# Altium footprint library Pin Grid Array Package (PGA).PcbLib: 60 footprints (part 1 of 6)
Each footprint in its own frame and in the unit in brackets; x right, y up, seen from the top. Pads: shape width x height; smd on the part's side, far side on the other; paste and mask are expansions set on the pad; w line width, h text height; cw(c..) or ccw(c..) is an arc to the next point about the centre after c.
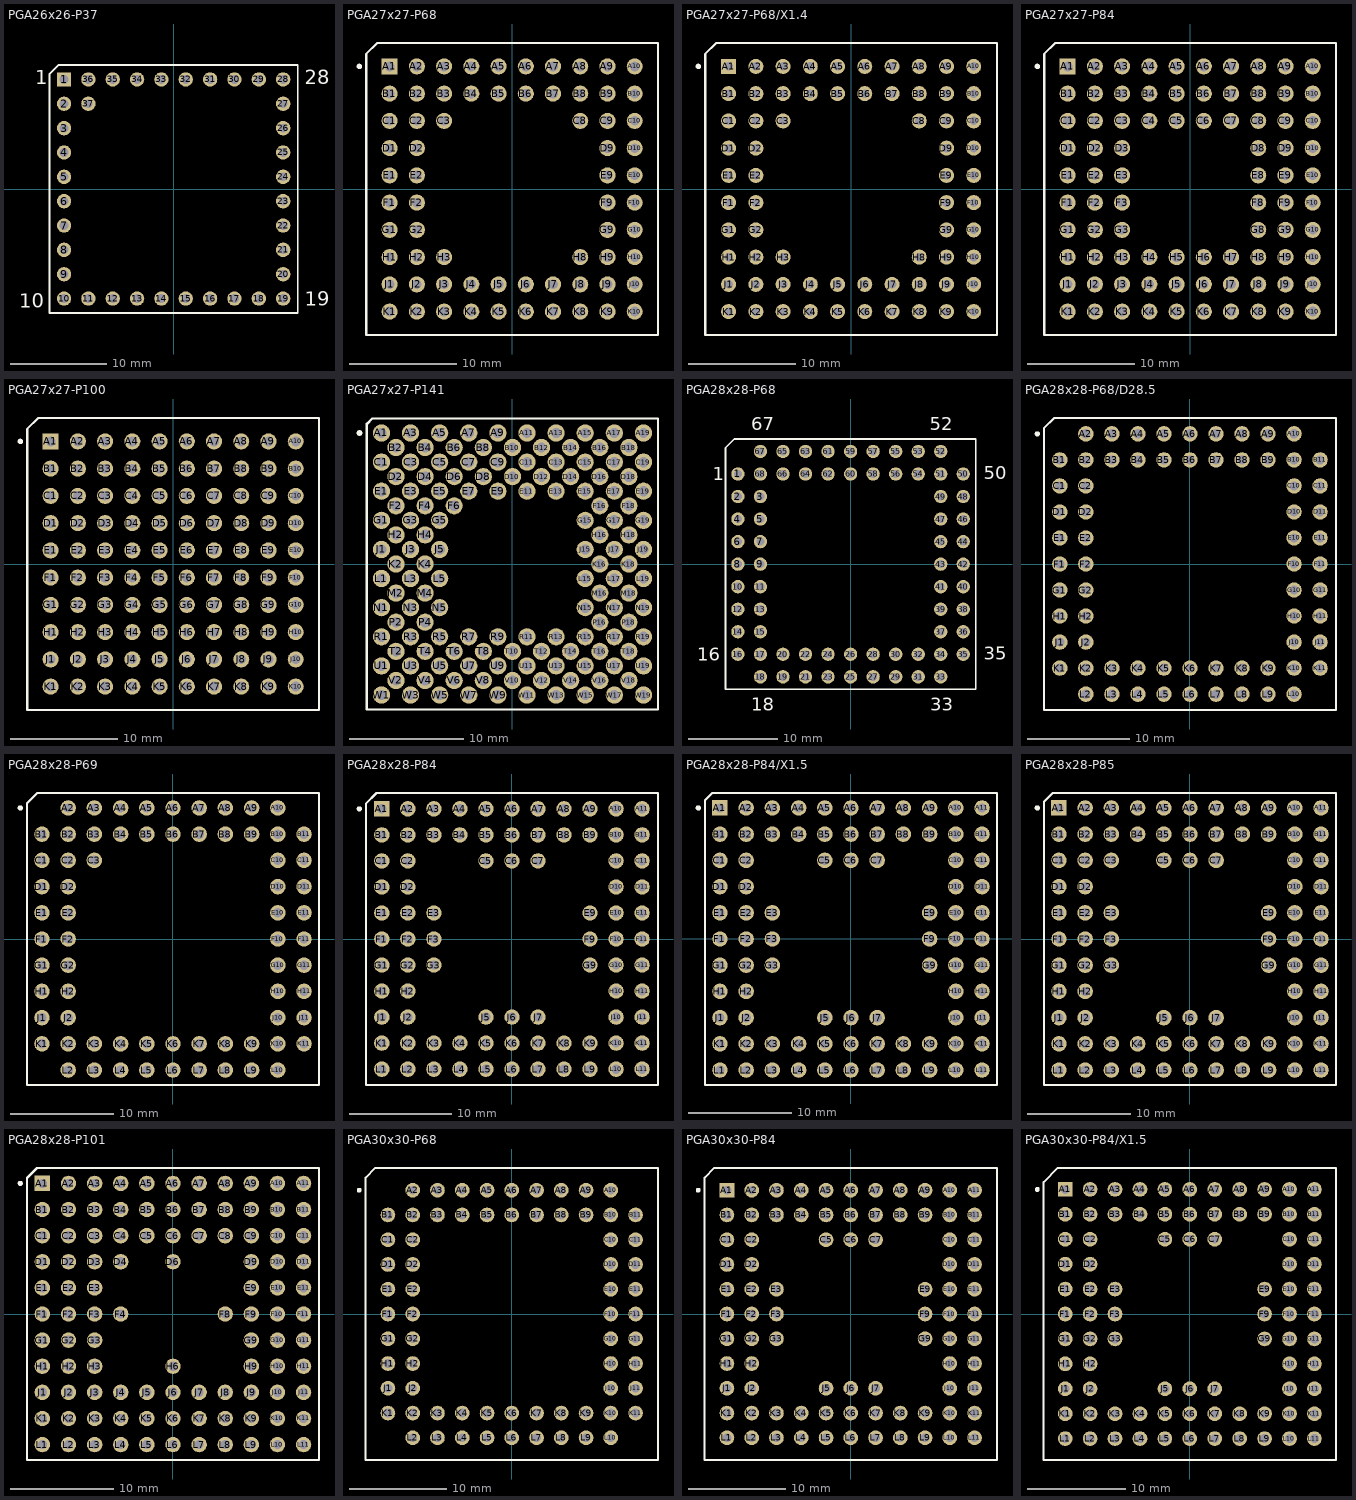
[diagram p0: the footprints below, top view; thin cyan lines are the x and y axes]

## PGA26x26-P37 [mm] "PGA; 37 Leads; Body 25.5 x 25.5 mm; Plain Grid"
height 5.1
pads (37):
  rect 1.5x1.5 hole 0.9: 1(-11.43,11.43)
  round 1.5 hole 0.9: 2(-11.43,8.89) 3(-11.43,6.35) 4(-11.43,3.81) 5(-11.43,1.27) 6(-11.43,-1.27) 7(-11.43,-3.81) 8(-11.43,-6.35) 9(-11.43,-8.89) 10(-11.43,-11.43) 11(-8.89,-11.43) 12(-6.35,-11.43) 13(-3.81,-11.43) 14(-1.27,-11.43) 15(1.27,-11.43) 16(3.81,-11.43) 17(6.35,-11.43) 18(8.89,-11.43) 19(11.43,-11.43) 20(11.43,-8.89) 21(11.43,-6.35) 22(11.43,-3.81) 23(11.43,-1.27) 24(11.43,1.27) 25(11.43,3.81) 26(11.43,6.35) 27(11.43,8.89) 28(11.43,11.43) 29(8.89,11.43) 30(6.35,11.43) 31(3.81,11.43) 32(1.27,11.43) 33(-1.27,11.43) 34(-3.81,11.43) 35(-6.35,11.43) 36(-8.89,11.43) 37(-8.89,8.89)
Top Overlay:
  lines w0.2: -12.95,-12.95 -12.95,11.976 -11.976,12.95 12.95,12.95 12.95,-12.95 -12.95,-12.95
  text "1" at -14.43,10.93 h1.5
  text "28" at 13.67,10.93 h1.5
  text "19" at 13.67,-12.17 h1.5
  text "10" at -16.13,-12.37 h1.5

## PGA27x27-P68 [mm] "PGA; 68 Leads; Body 27 x 27 mm; Plain Grid"
height 5.47
pads (68):
  rect 1.5x1.5 hole 0.9: A1(-11.43,11.43)
  round 1.5 hole 0.9: A2(-8.89,11.43) A3(-6.35,11.43) A4(-3.81,11.43) A5(-1.27,11.43) A6(1.27,11.43) A7(3.81,11.43) A8(6.35,11.43) A9(8.89,11.43) A10(11.43,11.43) B1(-11.43,8.89) B2(-8.89,8.89) B3(-6.35,8.89) B4(-3.81,8.89) B5(-1.27,8.89) B6(1.27,8.89) B7(3.81,8.89) B8(6.35,8.89) B9(8.89,8.89) B10(11.43,8.89) C1(-11.43,6.35) C2(-8.89,6.35) C3(-6.35,6.35) C8(6.35,6.35) C9(8.89,6.35) C10(11.43,6.35) D1(-11.43,3.81) D2(-8.89,3.81) D9(8.89,3.81) D10(11.43,3.81) E1(-11.43,1.27) E2(-8.89,1.27) E9(8.89,1.27) E10(11.43,1.27) F1(-11.43,-1.27) F2(-8.89,-1.27) F9(8.89,-1.27) F10(11.43,-1.27) G1(-11.43,-3.81) G2(-8.89,-3.81) G9(8.89,-3.81) G10(11.43,-3.81) H1(-11.43,-6.35) H2(-8.89,-6.35) H3(-6.35,-6.35) H8(6.35,-6.35) H9(8.89,-6.35) H10(11.43,-6.35) J1(-11.43,-8.89) J2(-8.89,-8.89) J3(-6.35,-8.89) J4(-3.81,-8.89) J5(-1.27,-8.89) J6(1.27,-8.89) J7(3.81,-8.89) J8(6.35,-8.89) J9(8.89,-8.89) J10(11.43,-8.89) K1(-11.43,-11.43) K2(-8.89,-11.43) K3(-6.35,-11.43) K4(-3.81,-11.43) K5(-1.27,-11.43) K6(1.27,-11.43) K7(3.81,-11.43) K8(6.35,-11.43) K9(8.89,-11.43) K10(11.43,-11.43)
Top Overlay:
  circle w0.25: c-14.25,11.43 r0.125
  lines w0.2: -13.6,-13.6 13.6,-13.6 13.6,13.6 -12.6,13.6 -13.6,12.6 -13.6,-13.6

## PGA27x27-P68/X1.4 [mm] "PGA; 68 Leads; Body 27 x 27 mm; Plain Grid"
pads (68):
  rect 1.4x1.4 hole 0.8: A1(-11.43,11.43)
  round 1.4 hole 0.8: A2(-8.89,11.43) A3(-6.35,11.43) A4(-3.81,11.43) A5(-1.27,11.43) A6(1.27,11.43) A7(3.81,11.43) A8(6.35,11.43) A9(8.89,11.43) A10(11.43,11.43) B1(-11.43,8.89) B2(-8.89,8.89) B3(-6.35,8.89) B4(-3.81,8.89) B5(-1.27,8.89) B6(1.27,8.89) B7(3.81,8.89) B8(6.35,8.89) B9(8.89,8.89) B10(11.43,8.89) C1(-11.43,6.35) C2(-8.89,6.35) C3(-6.35,6.35) C8(6.35,6.35) C9(8.89,6.35) C10(11.43,6.35) D1(-11.43,3.81) D2(-8.89,3.81) D9(8.89,3.81) D10(11.43,3.81) E1(-11.43,1.27) E2(-8.89,1.27) E9(8.89,1.27) E10(11.43,1.27) F1(-11.43,-1.27) F2(-8.89,-1.27) F9(8.89,-1.27) F10(11.43,-1.27) G1(-11.43,-3.81) G2(-8.89,-3.81) G9(8.89,-3.81) G10(11.43,-3.81) H1(-11.43,-6.35) H2(-8.89,-6.35) H3(-6.35,-6.35) H8(6.35,-6.35) H9(8.89,-6.35) H10(11.43,-6.35) J1(-11.43,-8.89) J2(-8.89,-8.89) J3(-6.35,-8.89) J4(-3.81,-8.89) J5(-1.27,-8.89) J6(1.27,-8.89) J7(3.81,-8.89) J8(6.35,-8.89) J9(8.89,-8.89) J10(11.43,-8.89) K1(-11.43,-11.43) K2(-8.89,-11.43) K3(-6.35,-11.43) K4(-3.81,-11.43) K5(-1.27,-11.43) K6(1.27,-11.43) K7(3.81,-11.43) K8(6.35,-11.43) K9(8.89,-11.43) K10(11.43,-11.43)
Top Overlay:
  circle w0.25: c-14.25,11.43 r0.125
  lines w0.2: -13.6,-13.6 13.6,-13.6 13.6,13.6 -12.6,13.6 -13.6,12.6 -13.6,-13.6

## PGA27x27-P84 [mm] "PGA; 84 Leads; Body 27 x 27 mm; Plain Grid"
height 5.47
pads (84):
  rect 1.5x1.5 hole 0.9: A1(-11.43,11.43)
  round 1.5 hole 0.9: A2(-8.89,11.43) A3(-6.35,11.43) A4(-3.81,11.43) A5(-1.27,11.43) A6(1.27,11.43) A7(3.81,11.43) A8(6.35,11.43) A9(8.89,11.43) A10(11.43,11.43) B1(-11.43,8.89) B2(-8.89,8.89) B3(-6.35,8.89) B4(-3.81,8.89) B5(-1.27,8.89) B6(1.27,8.89) B7(3.81,8.89) B8(6.35,8.89) B9(8.89,8.89) B10(11.43,8.89) C1(-11.43,6.35) C2(-8.89,6.35) C3(-6.35,6.35) C4(-3.81,6.35) C5(-1.27,6.35) C6(1.27,6.35) C7(3.81,6.35) C8(6.35,6.35) C9(8.89,6.35) C10(11.43,6.35) D1(-11.43,3.81) D2(-8.89,3.81) D3(-6.35,3.81) D8(6.35,3.81) D9(8.89,3.81) D10(11.43,3.81) E1(-11.43,1.27) E2(-8.89,1.27) E3(-6.35,1.27) E8(6.35,1.27) E9(8.89,1.27) E10(11.43,1.27) F1(-11.43,-1.27) F2(-8.89,-1.27) F3(-6.35,-1.27) F8(6.35,-1.27) F9(8.89,-1.27) F10(11.43,-1.27) G1(-11.43,-3.81) G2(-8.89,-3.81) G3(-6.35,-3.81) G8(6.35,-3.81) G9(8.89,-3.81) G10(11.43,-3.81) H1(-11.43,-6.35) H2(-8.89,-6.35) H3(-6.35,-6.35) H4(-3.81,-6.35) H5(-1.27,-6.35) H6(1.27,-6.35) H7(3.81,-6.35) H8(6.35,-6.35) H9(8.89,-6.35) H10(11.43,-6.35) J1(-11.43,-8.89) J2(-8.89,-8.89) J3(-6.35,-8.89) J4(-3.81,-8.89) J5(-1.27,-8.89) J6(1.27,-8.89) J7(3.81,-8.89) J8(6.35,-8.89) J9(8.89,-8.89) J10(11.43,-8.89) K1(-11.43,-11.43) K2(-8.89,-11.43) K3(-6.35,-11.43) K4(-3.81,-11.43) K5(-1.27,-11.43) K6(1.27,-11.43) K7(3.81,-11.43) K8(6.35,-11.43) K9(8.89,-11.43) K10(11.43,-11.43)
Top Overlay:
  circle w0.25: c-14.25,11.43 r0.125
  lines w0.2: -13.6,-13.6 -13.6,12.6 -12.6,13.6 13.6,13.6 13.6,-13.6 -13.6,-13.6

## PGA27x27-P100 [mm] "PGA; 100 Leads; Body 27 x 27 mm; Plain Grid"
height 4.01
pads (100):
  rect 1.5x1.5 hole 0.9: A1(-11.43,11.43)
  round 1.5 hole 0.9: A2(-8.89,11.43) A3(-6.35,11.43) A4(-3.81,11.43) A5(-1.27,11.43) A6(1.27,11.43) A7(3.81,11.43) A8(6.35,11.43) A9(8.89,11.43) A10(11.43,11.43) B1(-11.43,8.89) B2(-8.89,8.89) B3(-6.35,8.89) B4(-3.81,8.89) B5(-1.27,8.89) B6(1.27,8.89) B7(3.81,8.89) B8(6.35,8.89) B9(8.89,8.89) B10(11.43,8.89) C1(-11.43,6.35) C2(-8.89,6.35) C3(-6.35,6.35) C4(-3.81,6.35) C5(-1.27,6.35) C6(1.27,6.35) C7(3.81,6.35) C8(6.35,6.35) C9(8.89,6.35) C10(11.43,6.35) D1(-11.43,3.81) D2(-8.89,3.81) D3(-6.35,3.81) D4(-3.81,3.81) D5(-1.27,3.81) D6(1.27,3.81) D7(3.81,3.81) D8(6.35,3.81) D9(8.89,3.81) D10(11.43,3.81) E1(-11.43,1.27) E2(-8.89,1.27) E3(-6.35,1.27) E4(-3.81,1.27) E5(-1.27,1.27) E6(1.27,1.27) E7(3.81,1.27) E8(6.35,1.27) E9(8.89,1.27) E10(11.43,1.27) F1(-11.43,-1.27) F2(-8.89,-1.27) F3(-6.35,-1.27) F4(-3.81,-1.27) F5(-1.27,-1.27) F6(1.27,-1.27) F7(3.81,-1.27) F8(6.35,-1.27) F9(8.89,-1.27) F10(11.43,-1.27) G1(-11.43,-3.81) G2(-8.89,-3.81) G3(-6.35,-3.81) G4(-3.81,-3.81) G5(-1.27,-3.81) G6(1.27,-3.81) G7(3.81,-3.81) G8(6.35,-3.81) G9(8.89,-3.81) G10(11.43,-3.81) H1(-11.43,-6.35) H2(-8.89,-6.35) H3(-6.35,-6.35) H4(-3.81,-6.35) H5(-1.27,-6.35) H6(1.27,-6.35) H7(3.81,-6.35) H8(6.35,-6.35) H9(8.89,-6.35) H10(11.43,-6.35) J1(-11.43,-8.89) J2(-8.89,-8.89) J3(-6.35,-8.89) J4(-3.81,-8.89) J5(-1.27,-8.89) J6(1.27,-8.89) J7(3.81,-8.89) J8(6.35,-8.89) J9(8.89,-8.89) J10(11.43,-8.89) K1(-11.43,-11.43) K2(-8.89,-11.43) K3(-6.35,-11.43) K4(-3.81,-11.43) K5(-1.27,-11.43) K6(1.27,-11.43) K7(3.81,-11.43) K8(6.35,-11.43) K9(8.89,-11.43) K10(11.43,-11.43)
Top Overlay:
  circle w0.25: c-14.25,11.43 r0.125
  lines w0.2: -13.6,-13.6 13.6,-13.6 13.6,13.6 -12.6,13.6 -13.6,12.6 -13.6,-13.6

## PGA27x27-P141 [mm] "PGA; 141 Leads; Body 27 x 27 mm; Staggered Grid"
height 4.54
pads (141):
  round 1.5 hole 0.9: A1(-11.43,11.43) A3(-8.89,11.43) A5(-6.35,11.43) A7(-3.81,11.43) A9(-1.27,11.43) A11(1.27,11.43) A13(3.81,11.43) A15(6.35,11.43) A17(8.89,11.43) A19(11.43,11.43) B2(-10.16,10.16) B4(-7.62,10.16) B6(-5.08,10.16) B8(-2.54,10.16) B10(0,10.16) B12(2.54,10.16) B14(5.08,10.16) B16(7.62,10.16) B18(10.16,10.16) C1(-11.43,8.89) C3(-8.89,8.89) C5(-6.35,8.89) C7(-3.81,8.89) C9(-1.27,8.89) C11(1.27,8.89) C13(3.81,8.89) C15(6.35,8.89) C17(8.89,8.89) C19(11.43,8.89) D2(-10.16,7.62) D4(-7.62,7.62) D6(-5.08,7.62) D8(-2.54,7.62) D10(0,7.62) D12(2.54,7.62) D14(5.08,7.62) D16(7.62,7.62) D18(10.16,7.62) E1(-11.43,6.35) E3(-8.89,6.35) E5(-6.35,6.35) E7(-3.81,6.35) E9(-1.27,6.35) E11(1.27,6.35) E13(3.81,6.35) E15(6.35,6.35) E17(8.89,6.35) E19(11.43,6.35) F2(-10.16,5.08) F4(-7.62,5.08) F6(-5.08,5.08) F16(7.62,5.08) F18(10.16,5.08) G1(-11.43,3.81) G3(-8.89,3.81) G5(-6.35,3.81) G15(6.35,3.81) G17(8.89,3.81) G19(11.43,3.81) H2(-10.16,2.54) H4(-7.62,2.54) H16(7.62,2.54) H18(10.16,2.54) J1(-11.43,1.27) J3(-8.89,1.27) J5(-6.35,1.27) J15(6.35,1.27) J17(8.89,1.27) J19(11.43,1.27) K2(-10.16,0) K4(-7.62,0) K16(7.62,0) K18(10.16,0) L1(-11.43,-1.27) L3(-8.89,-1.27) L5(-6.35,-1.27) L15(6.35,-1.27) L17(8.89,-1.27) L19(11.43,-1.27) M2(-10.16,-2.54) M4(-7.62,-2.54) M16(7.62,-2.54) M18(10.16,-2.54) N1(-11.43,-3.81) N3(-8.89,-3.81) N5(-6.35,-3.81) N15(6.35,-3.81) N17(8.89,-3.81) N19(11.43,-3.81) P2(-10.16,-5.08) P4(-7.62,-5.08) P16(7.62,-5.08) P18(10.16,-5.08) R1(-11.43,-6.35) R3(-8.89,-6.35) R5(-6.35,-6.35) R7(-3.81,-6.35) R9(-1.27,-6.35) R11(1.27,-6.35) R13(3.81,-6.35) R15(6.35,-6.35) R17(8.89,-6.35) R19(11.43,-6.35) T2(-10.16,-7.62) T4(-7.62,-7.62) T6(-5.08,-7.62) T8(-2.54,-7.62) T10(0,-7.62) T12(2.54,-7.62) T14(5.08,-7.62) T16(7.62,-7.62) T18(10.16,-7.62) U1(-11.43,-8.89) U3(-8.89,-8.89) U5(-6.35,-8.89) U7(-3.81,-8.89) U9(-1.27,-8.89) U11(1.27,-8.89) U13(3.81,-8.89) U15(6.35,-8.89) U17(8.89,-8.89) U19(11.43,-8.89) V2(-10.16,-10.16) V4(-7.62,-10.16) V6(-5.08,-10.16) V8(-2.54,-10.16) V10(0,-10.16) V12(2.54,-10.16) V14(5.08,-10.16) V16(7.62,-10.16) V18(10.16,-10.16) W1(-11.43,-11.43) W3(-8.89,-11.43) W5(-6.35,-11.43) W7(-3.81,-11.43) W9(-1.27,-11.43) W11(1.27,-11.43) W13(3.81,-11.43) W15(6.35,-11.43) W17(8.89,-11.43) W19(11.43,-11.43)
Top Overlay:
  circle w0.25: c-13.35,11.43 r0.125
  lines w0.2: -12.7,-12.7 12.7,-12.7 12.7,12.7 -12.226,12.7 -12.7,12.226 -12.7,-12.7

## PGA28x28-P68 [mm] "PGA; 68 Leads; Body 28 x 28 mm; Plain Grid"
height 4.45
pads (68):
  round 1.5 hole 0.9: 1(-12.7,10.16) 2(-12.7,7.62) 3(-10.16,7.62) 4(-12.7,5.08) 5(-10.16,5.08) 6(-12.7,2.54) 7(-10.16,2.54) 8(-12.7,0) 9(-10.16,0) 10(-12.7,-2.54) 11(-10.16,-2.54) 12(-12.7,-5.08) 13(-10.16,-5.08) 14(-12.7,-7.62) 15(-10.16,-7.62) 16(-12.7,-10.16) 17(-10.16,-10.16) 18(-10.16,-12.7) 19(-7.62,-12.7) 20(-7.62,-10.16) 21(-5.08,-12.7) 22(-5.08,-10.16) 23(-2.54,-12.7) 24(-2.54,-10.16) 25(0,-12.7) 26(0,-10.16) 27(2.54,-12.7) 28(2.54,-10.16) 29(5.08,-12.7) 30(5.08,-10.16) 31(7.62,-12.7) 32(7.62,-10.16) 33(10.16,-12.7) 34(10.16,-10.16) 35(12.7,-10.16) 36(12.7,-7.62) 37(10.16,-7.62) 38(12.7,-5.08) 39(10.16,-5.08) 40(12.7,-2.54) 41(10.16,-2.54) 42(12.7,0) 43(10.16,0) 44(12.7,2.54) 45(10.16,2.54) 46(12.7,5.08) 47(10.16,5.08) 48(12.7,7.62) 49(10.16,7.62) 50(12.7,10.16) 51(10.16,10.16) 52(10.16,12.7) 53(7.62,12.7) 54(7.62,10.16) 55(5.08,12.7) 56(5.08,10.16) 57(2.54,12.7) 58(2.54,10.16) 59(0,12.7) 60(0,10.16) 61(-2.54,12.7) 62(-2.54,10.16) 63(-5.08,12.7) 64(-5.08,10.16) 65(-7.62,12.7) 66(-7.62,10.16) 67(-10.16,12.7) 68(-10.16,10.16)
Top Overlay:
  lines w0.2: -14.1,-14.1 -14.1,13.1 -13.1,14.1 14.1,14.1 14.1,-14.1 -14.1,-14.1
  text "67" at -11.18,15.08 h1.5
  text "52" at 8.9,15.08 h1.5
  text "50" at 15,9.55 h1.5
  text "35" at 15,-10.77 h1.5
  text "33" at 8.96,-16.55 h1.5
  text "16" at -17.31,-10.87 h1.5
  text "1" at -15.51,9.45 h1.5
  text "18" at -11.22,-16.55 h1.5

## PGA28x28-P68/D28.5 [mm] "68-Pin Ceramic Pin-Grid Array (PGA)"
height 4.96
pads (68):
  round 1.5 hole 0.9: A2(-10.16,12.7) A3(-7.62,12.7) A4(-5.08,12.7) A5(-2.54,12.7) A6(0,12.7) A7(2.54,12.7) A8(5.08,12.7) A9(7.62,12.7) A10(10.16,12.7) B1(-12.7,10.16) B2(-10.16,10.16) B3(-7.62,10.16) B4(-5.08,10.16) B5(-2.54,10.16) B6(0,10.16) B7(2.54,10.16) B8(5.08,10.16) B9(7.62,10.16) B10(10.16,10.16) B11(12.7,10.16) C1(-12.7,7.62) C2(-10.16,7.62) C10(10.16,7.62) C11(12.7,7.62) D1(-12.7,5.08) D2(-10.16,5.08) D10(10.16,5.08) D11(12.7,5.08) E1(-12.7,2.54) E2(-10.16,2.54) E10(10.16,2.54) E11(12.7,2.54) F1(-12.7,0) F2(-10.16,0) F10(10.16,0) F11(12.7,0) G1(-12.7,-2.54) G2(-10.16,-2.54) G10(10.16,-2.54) G11(12.7,-2.54) H1(-12.7,-5.08) H2(-10.16,-5.08) H10(10.16,-5.08) H11(12.7,-5.08) J1(-12.7,-7.62) J2(-10.16,-7.62) J10(10.16,-7.62) J11(12.7,-7.62) K1(-12.7,-10.16) K2(-10.16,-10.16) K3(-7.62,-10.16) K4(-5.08,-10.16) K5(-2.54,-10.16) K6(0,-10.16) K7(2.54,-10.16) K8(5.08,-10.16) K9(7.62,-10.16) K10(10.16,-10.16) K11(12.7,-10.16) L2(-10.16,-12.7) L3(-7.62,-12.7) L4(-5.08,-12.7) L5(-2.54,-12.7) L6(0,-12.7) L7(2.54,-12.7) L8(5.08,-12.7) L9(7.62,-12.7) L10(10.16,-12.7)
Top Overlay:
  circle w0.25: c-14.9,12.7 r0.125
  lines w0.2: -14.25,-14.25 -14.25,13.25 -13.25,14.25 14.25,14.25 14.25,-14.25 -14.25,-14.25

## PGA28x28-P69 [mm] "PGA; 69 Leads; Body 28 x 28 mm; Plain Grid"
height 3.65
pads (69):
  round 1.5 hole 0.9: A2(-10.16,12.7) A3(-7.62,12.7) A4(-5.08,12.7) A5(-2.54,12.7) A6(0,12.7) A7(2.54,12.7) A8(5.08,12.7) A9(7.62,12.7) A10(10.16,12.7) B1(-12.7,10.16) B2(-10.16,10.16) B3(-7.62,10.16) B4(-5.08,10.16) B5(-2.54,10.16) B6(0,10.16) B7(2.54,10.16) B8(5.08,10.16) B9(7.62,10.16) B10(10.16,10.16) B11(12.7,10.16) C1(-12.7,7.62) C2(-10.16,7.62) C3(-7.62,7.62) C10(10.16,7.62) C11(12.7,7.62) D1(-12.7,5.08) D2(-10.16,5.08) D10(10.16,5.08) D11(12.7,5.08) E1(-12.7,2.54) E2(-10.16,2.54) E10(10.16,2.54) E11(12.7,2.54) F1(-12.7,0) F2(-10.16,0) F10(10.16,0) F11(12.7,0) G1(-12.7,-2.54) G2(-10.16,-2.54) G10(10.16,-2.54) G11(12.7,-2.54) H1(-12.7,-5.08) H2(-10.16,-5.08) H10(10.16,-5.08) H11(12.7,-5.08) J1(-12.7,-7.62) J2(-10.16,-7.62) J10(10.16,-7.62) J11(12.7,-7.62) K1(-12.7,-10.16) K2(-10.16,-10.16) K3(-7.62,-10.16) K4(-5.08,-10.16) K5(-2.54,-10.16) K6(0,-10.16) K7(2.54,-10.16) K8(5.08,-10.16) K9(7.62,-10.16) K10(10.16,-10.16) K11(12.7,-10.16) L2(-10.16,-12.7) L3(-7.62,-12.7) L4(-5.08,-12.7) L5(-2.54,-12.7) L6(0,-12.7) L7(2.54,-12.7) L8(5.08,-12.7) L9(7.62,-12.7) L10(10.16,-12.7)
Top Overlay:
  circle w0.25: c-14.8,12.7 r0.125
  lines w0.2: -14.15,-14.15 -14.15,13.15 -13.15,14.15 14.15,14.15 14.15,-14.15 -14.15,-14.15

## PGA28x28-P84 [mm] "84-Pin Ceramic Pin-Grid Array (PGA)"
height 4.96
pads (84):
  rect 1.5x1.5 hole 0.9: A1(-12.7,12.7)
  round 1.5 hole 0.9: A2(-10.16,12.7) A3(-7.62,12.7) A4(-5.08,12.7) A5(-2.54,12.7) A6(0,12.7) A7(2.54,12.7) A8(5.08,12.7) A9(7.62,12.7) A10(10.16,12.7) A11(12.7,12.7) B1(-12.7,10.16) B2(-10.16,10.16) B3(-7.62,10.16) B4(-5.08,10.16) B5(-2.54,10.16) B6(0,10.16) B7(2.54,10.16) B8(5.08,10.16) B9(7.62,10.16) B10(10.16,10.16) B11(12.7,10.16) C1(-12.7,7.62) C2(-10.16,7.62) C5(-2.54,7.62) C6(0,7.62) C7(2.54,7.62) C10(10.16,7.62) C11(12.7,7.62) D1(-12.7,5.08) D2(-10.16,5.08) D10(10.16,5.08) D11(12.7,5.08) E1(-12.7,2.54) E2(-10.16,2.54) E3(-7.62,2.54) E9(7.62,2.54) E10(10.16,2.54) E11(12.7,2.54) F1(-12.7,0) F2(-10.16,0) F3(-7.62,0) F9(7.62,0) F10(10.16,0) F11(12.7,0) G1(-12.7,-2.54) G2(-10.16,-2.54) G3(-7.62,-2.54) G9(7.62,-2.54) G10(10.16,-2.54) G11(12.7,-2.54) H1(-12.7,-5.08) H2(-10.16,-5.08) H10(10.16,-5.08) H11(12.7,-5.08) J1(-12.7,-7.62) J2(-10.16,-7.62) J5(-2.54,-7.62) J6(0,-7.62) J7(2.54,-7.62) J10(10.16,-7.62) J11(12.7,-7.62) K1(-12.7,-10.16) K2(-10.16,-10.16) K3(-7.62,-10.16) K4(-5.08,-10.16) K5(-2.54,-10.16) K6(0,-10.16) K7(2.54,-10.16) K8(5.08,-10.16) K9(7.62,-10.16) K10(10.16,-10.16) K11(12.7,-10.16) L1(-12.7,-12.7) L2(-10.16,-12.7) L3(-7.62,-12.7) L4(-5.08,-12.7) L5(-2.54,-12.7) L6(0,-12.7) L7(2.54,-12.7) L8(5.08,-12.7) L9(7.62,-12.7) L10(10.16,-12.7) L11(12.7,-12.7)
Top Overlay:
  circle w0.25: c-14.9,12.7 r0.125
  lines w0.2: -14.25,-14.25 -14.25,13.216 -13.216,14.25 14.25,14.25 14.25,-14.25 -14.25,-14.25

## PGA28x28-P84/X1.5 [mm] "Ceramic PGA, Window; 84 Leads; Body 28 x 28 mm; Plain Grid"
height 5.72
pads (84):
  rect 1.5x1.5 hole 0.9: A1(-12.7,12.7)
  round 1.5 hole 0.9: A2(-10.16,12.7) A3(-7.62,12.7) A4(-5.08,12.7) A5(-2.54,12.7) A6(0,12.7) A7(2.54,12.7) A8(5.08,12.7) A9(7.62,12.7) A10(10.16,12.7) A11(12.7,12.7) B1(-12.7,10.16) B2(-10.16,10.16) B3(-7.62,10.16) B4(-5.08,10.16) B5(-2.54,10.16) B6(0,10.16) B7(2.54,10.16) B8(5.08,10.16) B9(7.62,10.16) B10(10.16,10.16) B11(12.7,10.16) C1(-12.7,7.62) C2(-10.16,7.62) C5(-2.54,7.62) C6(0,7.62) C7(2.54,7.62) C10(10.16,7.62) C11(12.7,7.62) D1(-12.7,5.08) D2(-10.16,5.08) D10(10.16,5.08) D11(12.7,5.08) E1(-12.7,2.54) E2(-10.16,2.54) E3(-7.62,2.54) E9(7.62,2.54) E10(10.16,2.54) E11(12.7,2.54) F1(-12.7,0) F2(-10.16,0) F3(-7.62,0) F9(7.62,0) F10(10.16,0) F11(12.7,0) G1(-12.7,-2.54) G2(-10.16,-2.54) G3(-7.62,-2.54) G9(7.62,-2.54) G10(10.16,-2.54) G11(12.7,-2.54) H1(-12.7,-5.08) H2(-10.16,-5.08) H10(10.16,-5.08) H11(12.7,-5.08) J1(-12.7,-7.62) J2(-10.16,-7.62) J5(-2.54,-7.62) J6(0,-7.62) J7(2.54,-7.62) J10(10.16,-7.62) J11(12.7,-7.62) K1(-12.7,-10.16) K2(-10.16,-10.16) K3(-7.62,-10.16) K4(-5.08,-10.16) K5(-2.54,-10.16) K6(0,-10.16) K7(2.54,-10.16) K8(5.08,-10.16) K9(7.62,-10.16) K10(10.16,-10.16) K11(12.7,-10.16) L1(-12.7,-12.7) L2(-10.16,-12.7) L3(-7.62,-12.7) L4(-5.08,-12.7) L5(-2.54,-12.7) L6(0,-12.7) L7(2.54,-12.7) L8(5.08,-12.7) L9(7.62,-12.7) L10(10.16,-12.7) L11(12.7,-12.7)
Top Overlay:
  circle w0.25: c-14.8,12.7 r0.125
  lines w0.2: -14.15,13.4 -14.15,-14.15 14.15,-14.15 14.15,14.15 -13.4,14.15 ; -14.15,13.45 -13.45,14.15

## PGA28x28-P85 [mm] "84-Pin Ceramic Pin Grid Array (CPGA)"
height 4.32
pads (85):
  rect 1.5x1.5 hole 0.9: A1(-12.7,12.7)
  round 1.5 hole 0.9: A2(-10.16,12.7) A3(-7.62,12.7) A4(-5.08,12.7) A5(-2.54,12.7) A6(0,12.7) A7(2.54,12.7) A8(5.08,12.7) A9(7.62,12.7) A10(10.16,12.7) A11(12.7,12.7) B1(-12.7,10.16) B2(-10.16,10.16) B3(-7.62,10.16) B4(-5.08,10.16) B5(-2.54,10.16) B6(0,10.16) B7(2.54,10.16) B8(5.08,10.16) B9(7.62,10.16) B10(10.16,10.16) B11(12.7,10.16) C1(-12.7,7.62) C2(-10.16,7.62) C3(-7.62,7.62) C5(-2.54,7.62) C6(0,7.62) C7(2.54,7.62) C10(10.16,7.62) C11(12.7,7.62) D1(-12.7,5.08) D2(-10.16,5.08) D10(10.16,5.08) D11(12.7,5.08) E1(-12.7,2.54) E2(-10.16,2.54) E3(-7.62,2.54) E9(7.62,2.54) E10(10.16,2.54) E11(12.7,2.54) F1(-12.7,0) F2(-10.16,0) F3(-7.62,0) F9(7.62,0) F10(10.16,0) F11(12.7,0) G1(-12.7,-2.54) G2(-10.16,-2.54) G3(-7.62,-2.54) G9(7.62,-2.54) G10(10.16,-2.54) G11(12.7,-2.54) H1(-12.7,-5.08) H2(-10.16,-5.08) H10(10.16,-5.08) H11(12.7,-5.08) J1(-12.7,-7.62) J2(-10.16,-7.62) J5(-2.54,-7.62) J6(0,-7.62) J7(2.54,-7.62) J10(10.16,-7.62) J11(12.7,-7.62) K1(-12.7,-10.16) K2(-10.16,-10.16) K3(-7.62,-10.16) K4(-5.08,-10.16) K5(-2.54,-10.16) K6(0,-10.16) K7(2.54,-10.16) K8(5.08,-10.16) K9(7.62,-10.16) K10(10.16,-10.16) K11(12.7,-10.16) L1(-12.7,-12.7) L2(-10.16,-12.7) L3(-7.62,-12.7) L4(-5.08,-12.7) L5(-2.54,-12.7) L6(0,-12.7) L7(2.54,-12.7) L8(5.08,-12.7) L9(7.62,-12.7) L10(10.16,-12.7) L11(12.7,-12.7)
Top Overlay:
  circle w0.25: c-14.8,12.7 r0.125
  lines w0.2: -14.15,-14.15 -14.15,13.316 -13.316,14.15 14.15,14.15 14.15,-14.15 -14.15,-14.15

## PGA28x28-P101 [mm] "100-Pin Ceramic Pin Grid Array (CPGA)"
height 4.32
pads (101):
  rect 1.5x1.5 hole 0.9: A1(-12.7,12.7)
  round 1.5 hole 0.9: A2(-10.16,12.7) A3(-7.62,12.7) A4(-5.08,12.7) A5(-2.54,12.7) A6(0,12.7) A7(2.54,12.7) A8(5.08,12.7) A9(7.62,12.7) A10(10.16,12.7) A11(12.7,12.7) B1(-12.7,10.16) B2(-10.16,10.16) B3(-7.62,10.16) B4(-5.08,10.16) B5(-2.54,10.16) B6(0,10.16) B7(2.54,10.16) B8(5.08,10.16) B9(7.62,10.16) B10(10.16,10.16) B11(12.7,10.16) C1(-12.7,7.62) C2(-10.16,7.62) C3(-7.62,7.62) C4(-5.08,7.62) C5(-2.54,7.62) C6(0,7.62) C7(2.54,7.62) C8(5.08,7.62) C9(7.62,7.62) C10(10.16,7.62) C11(12.7,7.62) D1(-12.7,5.08) D2(-10.16,5.08) D3(-7.62,5.08) D4(-5.08,5.08) D6(0,5.08) D9(7.62,5.08) D10(10.16,5.08) D11(12.7,5.08) E1(-12.7,2.54) E2(-10.16,2.54) E3(-7.62,2.54) E9(7.62,2.54) E10(10.16,2.54) E11(12.7,2.54) F1(-12.7,0) F2(-10.16,0) F3(-7.62,0) F4(-5.08,0) F8(5.08,0) F9(7.62,0) F10(10.16,0) F11(12.7,0) G1(-12.7,-2.54) G2(-10.16,-2.54) G3(-7.62,-2.54) G9(7.62,-2.54) G10(10.16,-2.54) G11(12.7,-2.54) H1(-12.7,-5.08) H2(-10.16,-5.08) H3(-7.62,-5.08) H6(0,-5.08) H9(7.62,-5.08) H10(10.16,-5.08) H11(12.7,-5.08) J1(-12.7,-7.62) J2(-10.16,-7.62) J3(-7.62,-7.62) J4(-5.08,-7.62) J5(-2.54,-7.62) J6(0,-7.62) J7(2.54,-7.62) J8(5.08,-7.62) J9(7.62,-7.62) J10(10.16,-7.62) J11(12.7,-7.62) K1(-12.7,-10.16) K2(-10.16,-10.16) K3(-7.62,-10.16) K4(-5.08,-10.16) K5(-2.54,-10.16) K6(0,-10.16) K7(2.54,-10.16) K8(5.08,-10.16) K9(7.62,-10.16) K10(10.16,-10.16) K11(12.7,-10.16) L1(-12.7,-12.7) L2(-10.16,-12.7) L3(-7.62,-12.7) L4(-5.08,-12.7) L5(-2.54,-12.7) L6(0,-12.7) L7(2.54,-12.7) L8(5.08,-12.7) L9(7.62,-12.7) L10(10.16,-12.7) L11(12.7,-12.7)
Top Overlay:
  circle w0.25: c-14.85,12.7 r0.125
  lines w0.2: -14.2,-14.2 14.2,-14.2 14.2,14.2 -13.226,14.2 -14.2,13.226 -14.2,-14.2

## PGA30x30-P68 [mm] "PGA; 68 Leads; Body 29.5 x 29.5 mm; Plain Grid"
height 5.08
pads (68):
  round 1.5 hole 0.9: A2(-10.16,12.7) A3(-7.62,12.7) A4(-5.08,12.7) A5(-2.54,12.7) A6(0,12.7) A7(2.54,12.7) A8(5.08,12.7) A9(7.62,12.7) A10(10.16,12.7) B1(-12.7,10.16) B2(-10.16,10.16) B3(-7.62,10.16) B4(-5.08,10.16) B5(-2.54,10.16) B6(0,10.16) B7(2.54,10.16) B8(5.08,10.16) B9(7.62,10.16) B10(10.16,10.16) B11(12.7,10.16) C1(-12.7,7.62) C2(-10.16,7.62) C10(10.16,7.62) C11(12.7,7.62) D1(-12.7,5.08) D2(-10.16,5.08) D10(10.16,5.08) D11(12.7,5.08) E1(-12.7,2.54) E2(-10.16,2.54) E10(10.16,2.54) E11(12.7,2.54) F1(-12.7,0) F2(-10.16,0) F10(10.16,0) F11(12.7,0) G1(-12.7,-2.54) G2(-10.16,-2.54) G10(10.16,-2.54) G11(12.7,-2.54) H1(-12.7,-5.08) H2(-10.16,-5.08) H10(10.16,-5.08) H11(12.7,-5.08) J1(-12.7,-7.62) J2(-10.16,-7.62) J10(10.16,-7.62) J11(12.7,-7.62) K1(-12.7,-10.16) K2(-10.16,-10.16) K3(-7.62,-10.16) K4(-5.08,-10.16) K5(-2.54,-10.16) K6(0,-10.16) K7(2.54,-10.16) K8(5.08,-10.16) K9(7.62,-10.16) K10(10.16,-10.16) K11(12.7,-10.16) L2(-10.16,-12.7) L3(-7.62,-12.7) L4(-5.08,-12.7) L5(-2.54,-12.7) L6(0,-12.7) L7(2.54,-12.7) L8(5.08,-12.7) L9(7.62,-12.7) L10(10.16,-12.7)
Top Overlay:
  circle w0.25: c-15.65,12.7 r0.125
  lines w0.2: -15,-15 -15,14 -14,15 15,15 15,-15 -15,-15

## PGA30x30-P84 [mm] "PGA; 84 Leads; Body 29.5 x 29.5 mm; Plain Grid"
height 5.2
pads (84):
  rect 1.5x1.5 hole 0.9: A1(-12.7,12.7)
  round 1.5 hole 0.9: A2(-10.16,12.7) A3(-7.62,12.7) A4(-5.08,12.7) A5(-2.54,12.7) A6(0,12.7) A7(2.54,12.7) A8(5.08,12.7) A9(7.62,12.7) A10(10.16,12.7) A11(12.7,12.7) B1(-12.7,10.16) B2(-10.16,10.16) B3(-7.62,10.16) B4(-5.08,10.16) B5(-2.54,10.16) B6(0,10.16) B7(2.54,10.16) B8(5.08,10.16) B9(7.62,10.16) B10(10.16,10.16) B11(12.7,10.16) C1(-12.7,7.62) C2(-10.16,7.62) C5(-2.54,7.62) C6(0,7.62) C7(2.54,7.62) C10(10.16,7.62) C11(12.7,7.62) D1(-12.7,5.08) D2(-10.16,5.08) D10(10.16,5.08) D11(12.7,5.08) E1(-12.7,2.54) E2(-10.16,2.54) E3(-7.62,2.54) E9(7.62,2.54) E10(10.16,2.54) E11(12.7,2.54) F1(-12.7,0) F2(-10.16,0) F3(-7.62,0) F9(7.62,0) F10(10.16,0) F11(12.7,0) G1(-12.7,-2.54) G2(-10.16,-2.54) G3(-7.62,-2.54) G9(7.62,-2.54) G10(10.16,-2.54) G11(12.7,-2.54) H1(-12.7,-5.08) H2(-10.16,-5.08) H10(10.16,-5.08) H11(12.7,-5.08) J1(-12.7,-7.62) J2(-10.16,-7.62) J5(-2.54,-7.62) J6(0,-7.62) J7(2.54,-7.62) J10(10.16,-7.62) J11(12.7,-7.62) K1(-12.7,-10.16) K2(-10.16,-10.16) K3(-7.62,-10.16) K4(-5.08,-10.16) K5(-2.54,-10.16) K6(0,-10.16) K7(2.54,-10.16) K8(5.08,-10.16) K9(7.62,-10.16) K10(10.16,-10.16) K11(12.7,-10.16) L1(-12.7,-12.7) L2(-10.16,-12.7) L3(-7.62,-12.7) L4(-5.08,-12.7) L5(-2.54,-12.7) L6(0,-12.7) L7(2.54,-12.7) L8(5.08,-12.7) L9(7.62,-12.7) L10(10.16,-12.7) L11(12.7,-12.7)
Top Overlay:
  circle w0.25: c-15.65,12.7 r0.125
  lines w0.2: -15,-15 15,-15 15,15 -14,15 -15,14 -15,-15

## PGA30x30-P84/X1.5 [mm] "PGA (Cavity Up); 84 Leads; Body 29.5 x 29.5 mm; Plain Grid"
height 4.37
pads (84):
  rect 1.5x1.5 hole 0.9: A1(-12.7,12.7)
  round 1.5 hole 0.9: A2(-10.16,12.7) A3(-7.62,12.7) A4(-5.08,12.7) A5(-2.54,12.7) A6(0,12.7) A7(2.54,12.7) A8(5.08,12.7) A9(7.62,12.7) A10(10.16,12.7) A11(12.7,12.7) B1(-12.7,10.16) B2(-10.16,10.16) B3(-7.62,10.16) B4(-5.08,10.16) B5(-2.54,10.16) B6(0,10.16) B7(2.54,10.16) B8(5.08,10.16) B9(7.62,10.16) B10(10.16,10.16) B11(12.7,10.16) C1(-12.7,7.62) C2(-10.16,7.62) C5(-2.54,7.62) C6(0,7.62) C7(2.54,7.62) C10(10.16,7.62) C11(12.7,7.62) D1(-12.7,5.08) D2(-10.16,5.08) D10(10.16,5.08) D11(12.7,5.08) E1(-12.7,2.54) E2(-10.16,2.54) E3(-7.62,2.54) E9(7.62,2.54) E10(10.16,2.54) E11(12.7,2.54) F1(-12.7,0) F2(-10.16,0) F3(-7.62,0) F9(7.62,0) F10(10.16,0) F11(12.7,0) G1(-12.7,-2.54) G2(-10.16,-2.54) G3(-7.62,-2.54) G9(7.62,-2.54) G10(10.16,-2.54) G11(12.7,-2.54) H1(-12.7,-5.08) H2(-10.16,-5.08) H10(10.16,-5.08) H11(12.7,-5.08) J1(-12.7,-7.62) J2(-10.16,-7.62) J5(-2.54,-7.62) J6(0,-7.62) J7(2.54,-7.62) J10(10.16,-7.62) J11(12.7,-7.62) K1(-12.7,-10.16) K2(-10.16,-10.16) K3(-7.62,-10.16) K4(-5.08,-10.16) K5(-2.54,-10.16) K6(0,-10.16) K7(2.54,-10.16) K8(5.08,-10.16) K9(7.62,-10.16) K10(10.16,-10.16) K11(12.7,-10.16) L1(-12.7,-12.7) L2(-10.16,-12.7) L3(-7.62,-12.7) L4(-5.08,-12.7) L5(-2.54,-12.7) L6(0,-12.7) L7(2.54,-12.7) L8(5.08,-12.7) L9(7.62,-12.7) L10(10.16,-12.7) L11(12.7,-12.7)
Top Overlay:
  circle w0.25: c-15.55,12.7 r0.125
  lines w0.2: -14.9,-14.9 14.9,-14.9 14.9,14.9 -13.45,14.9 -14.9,13.45 -14.9,-14.9